# EAGLE library part SX1231 (library semtech)
Low Power Integrated UHF Transceiver
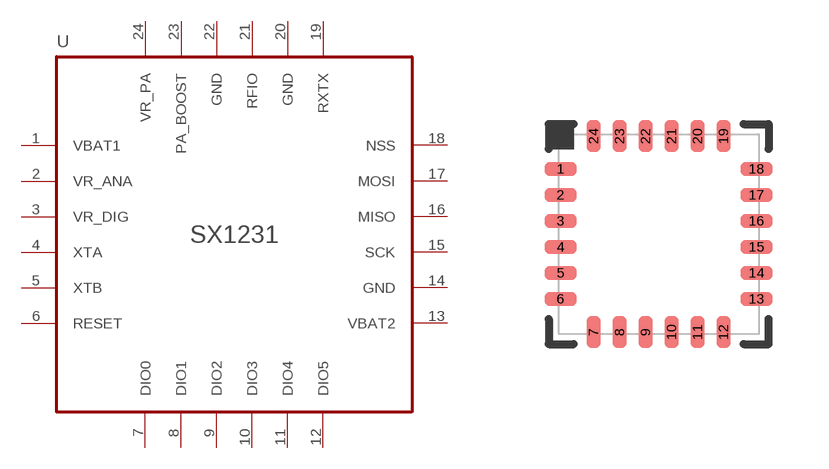
[diagram p1: symbol with the pads of QFN24; footprint QFN24]

Designator prefix U

## SX1231  [QFN24]
1  VBAT1  pwr
2  VR_ANA  pas
3  VR_DIG  pas
4  XTA
5  XTB
6  RESET
7  DIO0
8  DIO1
9  DIO2
10  DIO3
11  DIO4
12  DIO5
13  VBAT2  pwr
14  GND  pwr
15  SCK
16  MISO  out
17  MOSI
18  NSS
19  RXTX  out
20  GND  pwr
21  RFIO
22  GND  pwr
23  PA_BOOST  out
24  VR_PA  pas

## Footprint QFN24 (pad centres in mm)
QFN-24 body 5x5mm, pitch 0.65mm
smd 0.8 x 0.35: 1 -2.45,1.625; 2 -2.45,0.975; 3 -2.45,0.325; 4 -2.45,-0.325; 5 -2.45,-0.975; 6 -2.45,-1.625; 13 2.45,-1.625; 14 2.45,-0.975; 15 2.45,-0.325; 16 2.45,0.325; 17 2.45,0.975; 18 2.45,1.625
smd 0.35 x 0.8: 7 -1.625,-2.45; 8 -0.975,-2.45; 9 -0.325,-2.45; 10 0.325,-2.45; 11 0.975,-2.45; 12 1.625,-2.45; 19 1.625,2.45; 20 0.975,2.45; 21 0.325,2.45; 22 -0.325,2.45; 23 -0.975,2.45; 24 -1.625,2.45